# Altium footprint library Conn_TE_5-1634552-1_eec_0.PcbLib: 3 footprints
Each footprint in its own frame and in the unit in brackets; x right, y up, seen from the top. Pads: shape width x height; smd on the part's side, far side on the other; paste and mask are expansions set on the pad; w line width, h text height; cw(c..) or ccw(c..) is an arc to the next point about the centre after c.
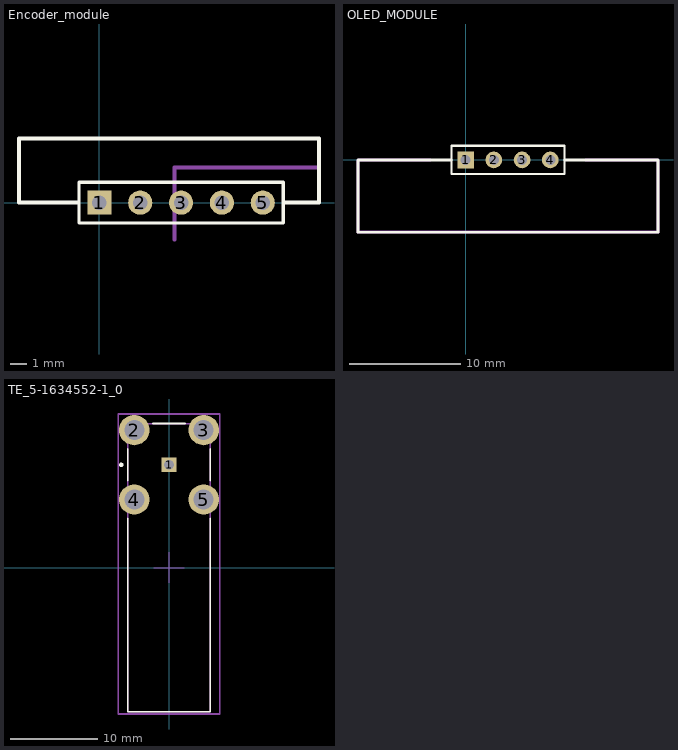
[diagram p0: the footprints below, top view; thin cyan lines are the x and y axes]

## Encoder_module [mm]
pads (5):
  rect 1.5x1.5 hole 0.9: 1(0,0)
  round 1.5 hole 0.9: 2(2.54,0) 3(5.08,0) 4(7.62,0) 5(10.16,0)
Top Overlay:
  lines w0.2: -1.27,-1.27 11.43,-1.27 11.43,1.27 -1.27,1.27 -1.27,-1.27
  lines w0.25: -1.29,0 -5,0 -5,4 13.66,4 13.66,0 11.47,0
Mechanical 1:
  lines w0.25: 4.66,-2.3 4.66,2.2 13.66,2.2

## OLED_MODULE [mm]
pads (4):
  rect 1.5x1.5 hole 0.9: 1(0,0)
  round 1.5 hole 0.9: 2(2.54,0) 3(5.08,0) 4(7.62,0)
Top Overlay:
  lines w0.2: -1.27,-1.27 -1.27,1.27 8.89,1.27 8.89,-1.27 -1.27,-1.27
  lines w0.25: -1.27,0 -9.69,0 -9.69,-6.5 0,-6.5 17.32,-6.5 17.32,0 8.89,0
Mechanical 1:
  lines w0.25: -9.69,-6.5 -9.69,0 -3.19,0 ; -9.69,-6.49 17.31,-6.49 ; 10.82,0 17.32,0 17.32,-6.5

## TE_5-1634552-1_0 [mm]
pads (5):
  rect 1.7x1.7 hole 1.1 paste-1000 mask+0: 1(0,11.85)
  round 3.5 hole 2.3 paste-1000 mask+0: 2(-4,15.85) 3(4,15.85) 4(-4,7.85) 5(4,7.85)
Top Overlay:
  circle w0.25: c-5.5,11.85 r0.125
  lines w0.2: -4.75,5.7 -4.75,-16.6 4.75,-16.6 4.75,5.7 ; -4.75,10 -4.75,13.7 ; -1.85,16.6 1.85,16.6 ; 4.75,10 4.75,13.7
Mechanical 10:
  lines w0.2: -5.85,-16.85 -5.85,17.7 5.85,17.7 5.85,-16.85 -5.85,-16.85
  text ".Designator" at 0,0.425 h1
Mechanical 12:
  lines w0.15: -4.75,-16.6 -4.75,16.6 4.75,16.6 4.75,-16.6 -4.75,-16.6
Mechanical 15:
  lines w0.1: -1.755,0 1.755,0 ; 0,-1.755 0,1.755
  lines w0.2: -5.85,-16.85 -5.85,17.7 5.85,17.7 5.85,-16.85 -5.85,-16.85
3D body "Conn_TE_5-1634552-1_eec.STEP": height 0.25, standoff 0, extent -5.85,-16.85 5.85,17.7